# Altium footprint library LCD Header.PcbLib: 1 footprints
Each footprint in its own frame and in the unit in brackets; x right, y up, seen from the top. Pads: shape width x height; smd on the part's side, far side on the other; paste and mask are expansions set on the pad; w line width, h text height; cw(c..) or ccw(c..) is an arc to the next point about the centre after c.
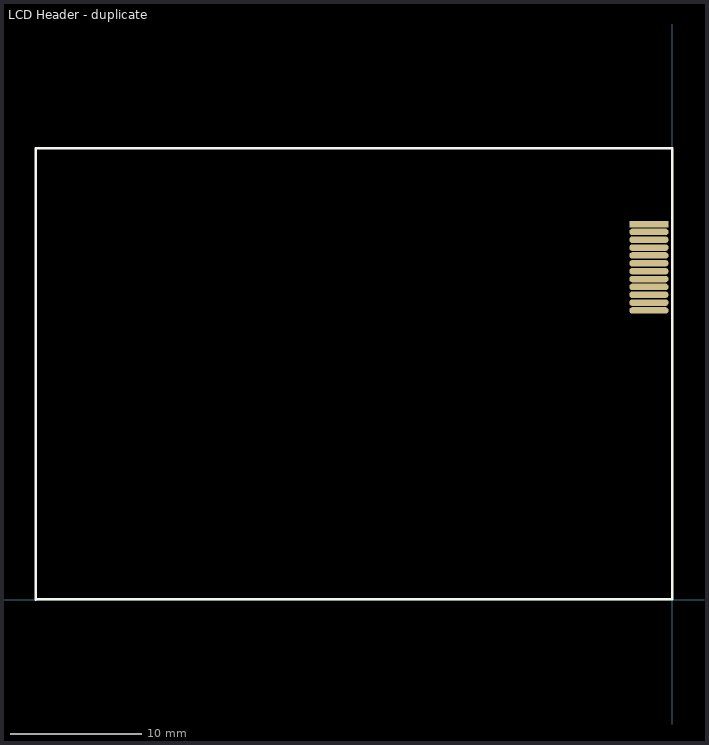
[diagram p0: the footprint, top view; thin cyan lines are the x and y axes]

## LCD Header - duplicate [mm]
pads (12):
  rect 3x0.5 smd: 1(-1.778,28.702)
  oval 3x0.5 smd: 2(-1.778,28.102) 3(-1.778,27.502) 4(-1.778,26.902) 5(-1.778,26.302) 6(-1.778,25.702) 7(-1.778,25.102) 8(-1.778,24.502) 9(-1.778,23.902) 10(-1.778,23.302) 11(-1.778,22.702) 12(-1.778,22.102)
Top Overlay:
  lines w0.2: -48.6,0 -48.6,34.5 0,34.5 0,0.044 -48.6,0.044